# Altium footprint library Led.PcbLib: 4 footprints
Each footprint in its own frame and in the unit in brackets; x right, y up, seen from the top. Pads: shape width x height; smd on the part's side, far side on the other; paste and mask are expansions set on the pad; w line width, h text height; cw(c..) or ccw(c..) is an arc to the next point about the centre after c.
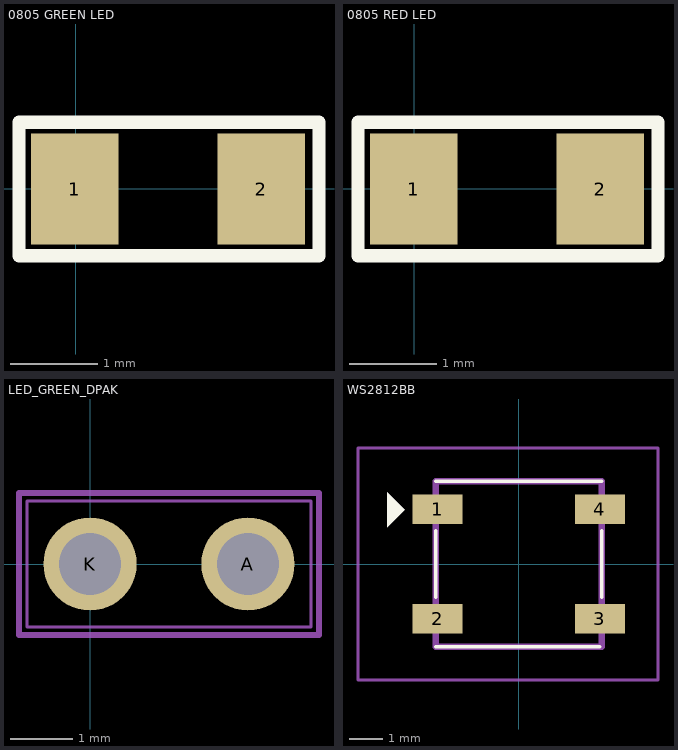
[diagram p0: the footprints below, top view; thin cyan lines are the x and y axes]

## 0805 GREEN LED [mm]
pads (2):
  rect 1x1.27 smd: 1(-0.016,0) 2(2.118,0)
Top Overlay:
  lines w0.152: -0.651,-0.762 2.778,-0.762 2.778,0.762 -0.651,0.762 -0.651,-0.762
3D body "0805 Green LED.STEP": height 1.1, standoff 0, extent -0.01,-0.625 2.01,0.625

## 0805 RED LED [mm]
pads (2):
  rect 1x1.27 smd: 1(-0.006,0) 2(2.127,0)
Top Overlay:
  lines w0.152: -0.641,-0.762 -0.641,0.762 2.788,0.762 2.788,-0.762 -0.641,-0.762
3D body "0805 Red LED.STEP": height 1.1, standoff 0, extent 0,-0.625 2.02,0.625

## LED_GREEN_DPAK [mm]
pads (2):
  round 1.5 hole 1: A(2.54,0) K(0,0)
Mechanical 3:
  lines w0.1: -1.143,-1.143 -1.143,1.143 3.683,1.143 3.683,-1.143 -1.143,-1.143
Mechanical 15:
  lines w0.05: -1.016,-1.016 -1.016,0.813 -1.016,1.016 3.556,1.016 3.556,-1.016 -1.016,-1.016
3D body "5MM LED RED.step": height 10.6, standoff -3, extent -1.305,-2.585 3.795,2.515

## WS2812BB [mm]
pads (4):
  rect 1.5x0.9 smd: 1(-2.45,1.65) 2(-2.45,-1.65) 3(2.45,-1.65) 4(2.45,1.65)
Top Overlay:
  region: -3.437,1.637 -3.962,2.162 -3.962,1.112
  lines w0.1: -2.5,-2.5 2.45,-2.5 ; -2.5,-1 -2.5,1 ; -2.5,2.5 2.5,2.5 ; 2.5,-1 2.5,1
Mechanical 13:
  lines w0.2: -2.5,-2.5 2.5,-2.5 2.5,2.5 -2.5,2.5 -2.5,-2.5
Mechanical 15:
  lines w0.1: -4.85,-3.5 4.2,-3.5 4.2,3.5 -4.85,3.5 -4.85,-3.5
3D body "WS2812B-B.stp": height 2.65, standoff 0, extent -3.2,-2.5 3.2,2.5